# Altium integrated library LB-602AK2.IntLib: 1 symbol
Pins are listed as number, name and electrical type; pins without a type are passive.

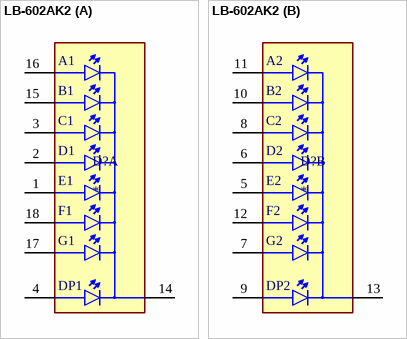
[diagram p0: symbol LB-602AK2]

## LB-602AK2
designator D?
Display Modules - LED Character and Numeric Red 7-Segment 2 Character Common Cathode 2.05V 10mA 0.748 H x 0.984 W x 0.315 D (19.00mm x 25.00mm x 8.00mm) 18-DIP; MF: Rohm; MP: LB-602AK2; SnapEDA_Link: https://www.snapeda.com/parts/LB-602AK2/Rohm/view-part/?ref=snap; Package: None; Value: *; Check_prices: https://www.snapeda.com/parts/LB-602AK2/Rohm/view-part/?ref=eda
footprint DIP1524W50P254L2500H830Q18B
part A pins: 1 E1, 2 D1, 3 C1, 4 DP1, 14 COM1, 15 B1, 16 A1, 17 G1, 18 F1
part B pins: 5 E2, 6 D2, 7 G2, 8 C2, 9 DP2, 10 B2, 11 A2, 12 F2, 13 COM2